# EAGLE library part DUAL7SEG_CAT_OSL20561-LX (library jason_eagle6)
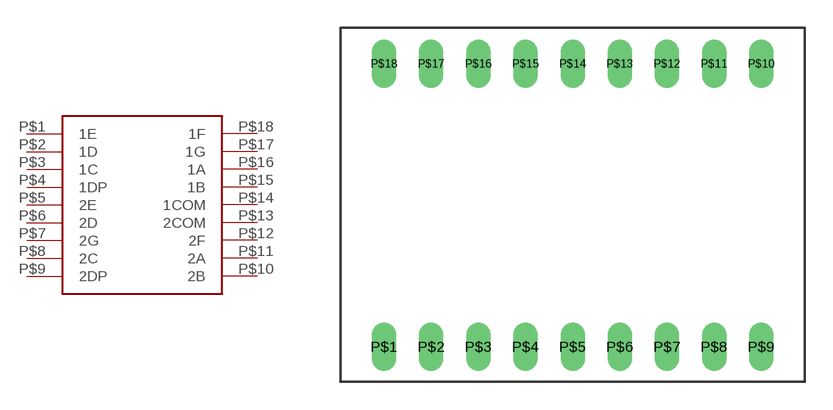
[diagram p30: symbol with the pads of DUAL7SEG_CAT_OSL20561-LX; footprint DUAL7SEG_CAT_OSL20561-LX]

Designator prefix -

## DUAL7SEG_CAT_OSL20561-LX  [DUAL7SEG_CAT_OSL20561-LX]
P$1  1E
P$2  1D
P$3  1C
P$4  1DP
P$5  2E
P$6  2D
P$7  2G
P$8  2C
P$9  2DP
P$10  2B
P$11  2A
P$12  2F
P$13  2COM
P$14  1COM
P$15  1B
P$16  1A
P$17  1G
P$18  1F

## Footprint DUAL7SEG_CAT_OSL20561-LX (pad centres in mm)
drill 0.8 long: P$1 -10.16,-7.62; P$2 -7.62,-7.62; P$3 -5.08,-7.62; P$4 -2.54,-7.62; P$5 0,-7.62; P$6 2.54,-7.62; P$7 5.08,-7.62; P$8 7.62,-7.62; P$9 10.16,-7.62; P$10 10.16,7.62; P$11 7.62,7.62; P$12 5.08,7.62; P$13 2.54,7.62; P$14 0,7.62; P$15 -2.54,7.62; P$16 -5.08,7.62; P$17 -7.62,7.62; P$18 -10.16,7.62